# Altium schematic symbol library SCH - DRIVER - LED - TI TPS610985DSE.SchLib: 1 symbol
Pins are listed as number, name and electrical type; pins without a type are passive.

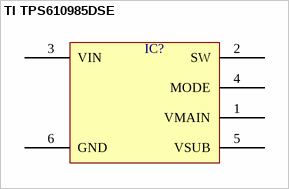
[diagram p0: symbol TI TPS610985DSE]

## TI TPS610985DSE
designator IC?  (value not drawn)
pins: 1 VMAIN, 2 SW, 3 VIN, 4 MODE, 5 VSUB, 6 GND